# EAGLE library part BQ34Z100-G1 (library BQ25504)
multi-chemistry wide range fuel gauge
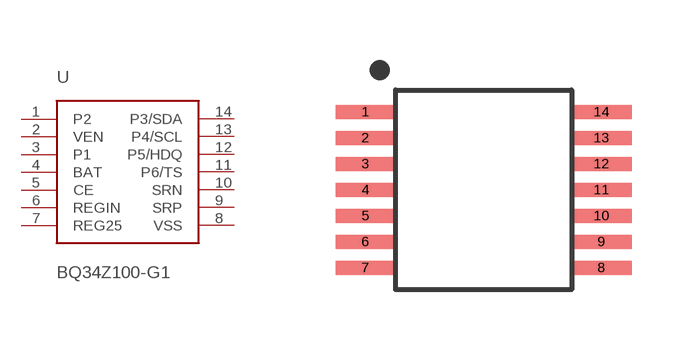
[diagram p70: symbol with the pads of TSSOP-14/5MM; footprint TSSOP-14/5MM]

Designator prefix U

## BQ34Z100-G1 (DIGIKEY: 296-39949-1-ND)  [TSSOP-14/5MM]
1  P2
2  VEN
3  P1
4  BAT
5  CE
6  REGIN
7  REG25
8  VSS
9  SRP
10  SRN
11  P6/TS
12  P5/HDQ
13  P4/SCL
14  P3/SDA

## Footprint TSSOP-14/5MM (pad centres in mm)
smd 1.5 x 0.35: 1 -2.95,1.95; 2 -2.95,1.3; 3 -2.95,0.65; 4 -2.95,0; 5 -2.95,-0.65; 6 -2.95,-1.3; 7 -2.95,-1.95; 8 2.95,-1.95; 9 2.95,-1.3; 10 2.95,-0.65; 11 2.95,0; 12 2.95,0.65; 13 2.95,1.3; 14 2.95,1.95